# EAGLE library part MSK-12C02SMD (library MSK-12C02 SMD Switch)
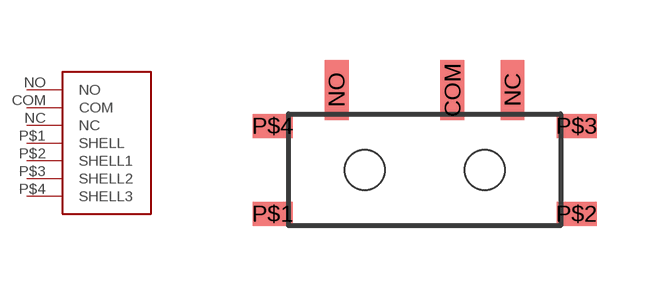
[diagram p0: symbol with the pads of MSK-12C02SMD; footprint MSK-12C02SMD]

Designator prefix -

## MSK-12C02SMD  [MSK-12C02SMD]
COM  COM
NC  NC
NO  NO
P$1  SHELL
P$2  SHELL1
P$3  SHELL2
P$4  SHELL3

## Footprint MSK-12C02SMD (pad centres in mm)
smd 0.6 x 1.5: COM 4.1,3.4; NC 5.6,3.4; NO 1.2,3.4
smd 1 x 0.6: P$1 -0.4,0.3; P$2 7.2,0.3; P$3 7.2,2.5; P$4 -0.4,2.5
hole 1 at 4.9,1.4
hole 1 at 1.9,1.4